# Altium schematic symbol library Standardbauteile.SchLib: 43 symbols
Pins are listed as number, name and electrical type; pins without a type are passive.

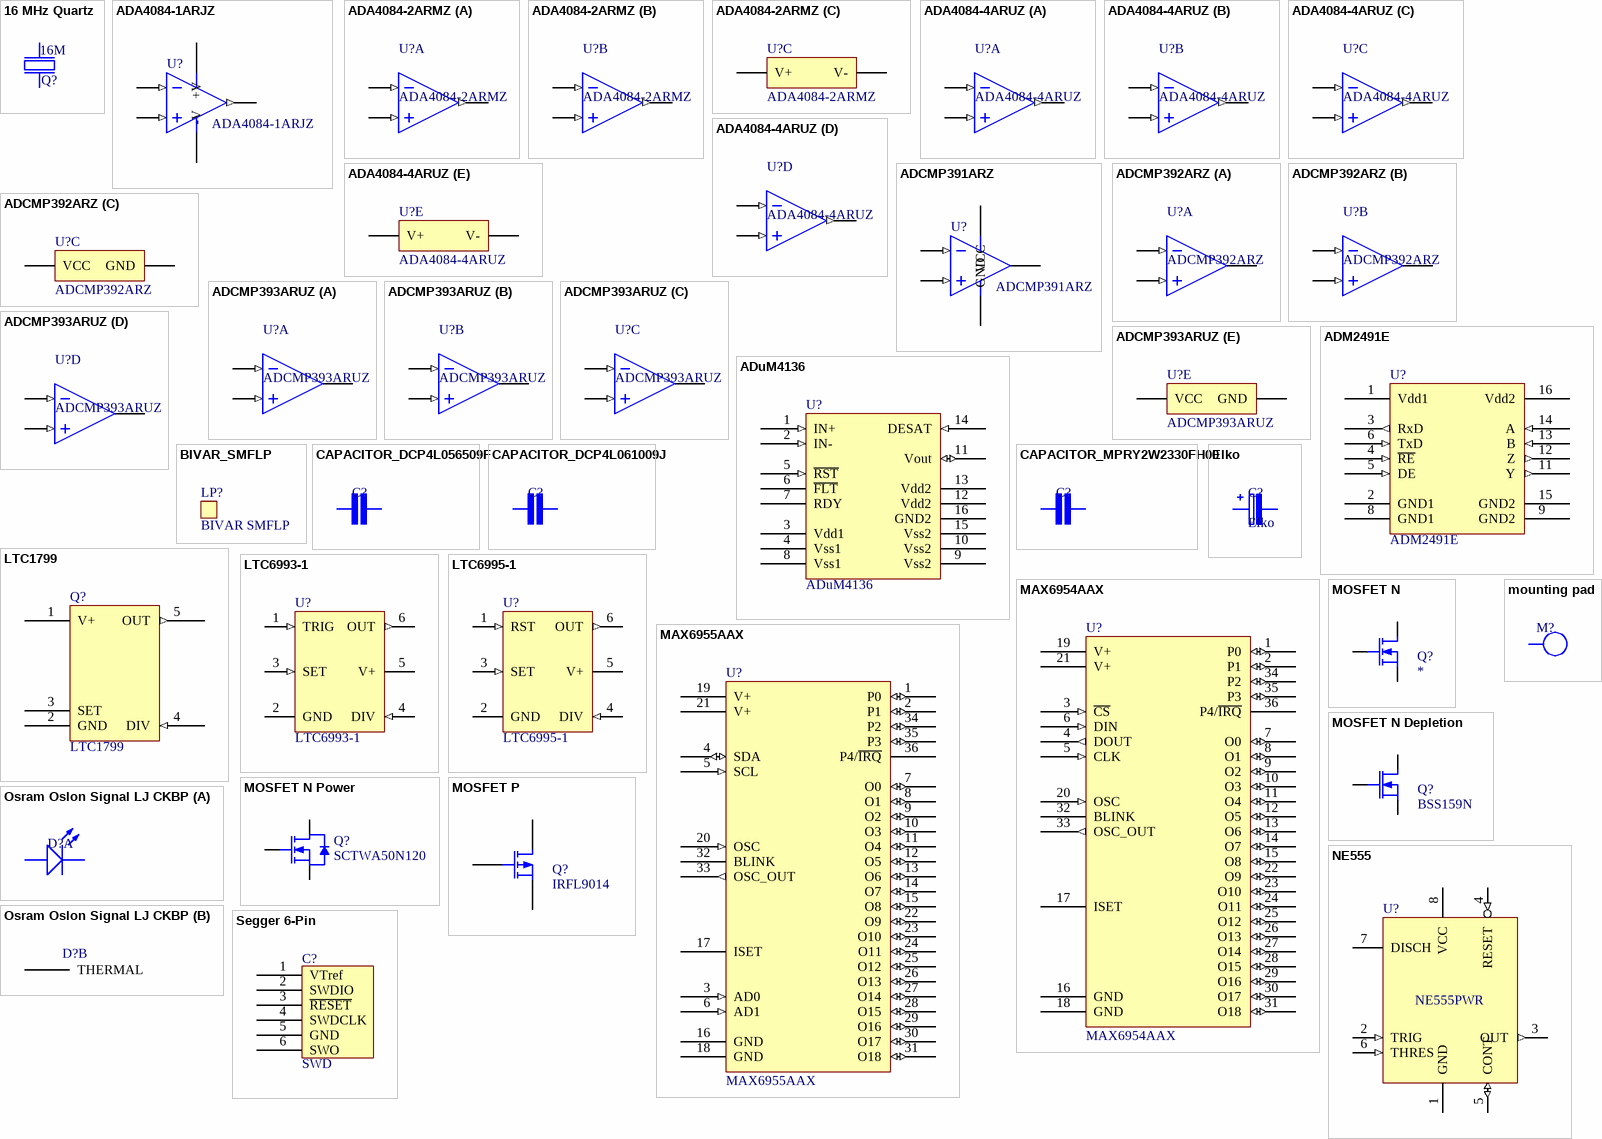
[diagram p0: symbols 16 MHz Quartz to Segger 6-Pin]

## 16 MHz Quartz
designator Q?, comment 16M
16 MHz Quartz
footprint NDK NX5032GA (Crystal, 2-Leads, Body 5.00x3.20mm, IPC Medium Density)
pins: 1, 2

## ADA4084-1ARJZ
designator U?
30 V, Low Noise, Rail-to-Rail Input/Output, Low Power Operational Amplifiers
footprint SOT-23-5-PIN
pins: 1 OUT (out), 2 -V (power), 3 +IN (in), 4 -IN (in), 5 +V (power)

## ADA4084-2ARMZ
designator U?
30 V, Low Noise, Rail-to-Rail Input/Output, Low Power Operational Amplifiers
footprint ANALOG_RM8 (Analog Devices 8-Lead Mini Small Outline Package)
part A pins: 1 OUT_A (out), 2 -IN_A (in), 3 +IN_A (in)
part B pins: 5 +IN_B (in), 6 -IN_B (in), 7 OUT_B (out)
part C pins: 4 V- (power), 8 V+ (power)

## ADA4084-4ARUZ
designator U?
30 V, Low Noise, Rail-to-Rail Input/Output, Low Power Operational Amplifiers
footprint ANALOG_RU14 (Analog Devices 14-Lead Thin Shrink Small Outline Package [TSSOP])
part A pins: 1 OUT_A (out), 2 -IN_A (in), 3 +IN_A (in)
part B pins: 5 +IN_B (in), 6 -IN_B (in), 7 OUT_B (out)
part C pins: 8 OUT_C (out), 9 -IN_C (in), 10 +IN_C (in)
part D pins: 12 +IN_D (in), 13 -IN_D (in), 14 OUT_D (out)
part E pins: 4 V+ (power), 11 V- (power)

## ADCMP391ARZ
designator U?
2.3V-5.5V Single Comparator With Known Power-Up State and Open-Drain output
footprint ANALOG_R8 (Analog Devices 8-Lead Standard Small Outline Package [SOIC_N])
pins: 2 -IN (in), 3 +IN (in), 4 GND (power), 6 OUT (oc), 7 VCC (power)

## ADCMP392ARZ
designator U?
2.3V-5.5V Dual Comparator With Known Power-Up State and Open-Drain outputs
footprint ANALOG_R8 (Analog Devices 8-Lead Standard Small Outline Package [SOIC_N])
part A pins: 1 OUT_A (oc), 2 -IN_A (in), 3 +IN_A (in)
part B pins: 5 +IN_B (in), 6 -IN_B (in), 7 OUT_B (oc)
part C pins: 4 GND (power), 8 VCC (power)

## ADCMP393ARUZ
designator U?
2.3V-5.5V Quad Comparator With Known Power-Up State and Open-Drain output
footprint ANALOG_RU14 (Analog Devices 14-Lead Thin Shrink Small Outline Package [TSSOP])
part A pins: 2 OUT_A (oc), 4 -IN_A (in), 5 +IN_A (in)
part B pins: 1 OUT_B (oc), 6 -IN_B (in), 7 +IN_B (in)
part C pins: 8 -IN_C (in), 9 +IN_C (in), 14 OUT_C (oc)
part D pins: 10 -IN_D (in), 11 +IN_D (in), 13 OUT_D (oc)
part E pins: 3 VCC (power), 12 GND (power)

## ADM2491E
designator U?
footprint SOIC16 (SOIC, 16-Leads, Body 10,30x7,50mm, Pitch 1,27mm, IPC Medium Density)
pins: 1 Vdd1 (power), 2 GND1 (power), 3 RxD (out), 4 ~{RE} (in), 5 DE (in), 6 TxD (in), 8 GND1 (power), 9 GND2 (power), 11 Y (out), 12 Z (out), 13 B (in), 14 A (in), 15 GND2 (power), 16 Vdd2 (power)

## ADuM4136
designator U?
footprint SOIC16 (SOIC, 16-Leads, Body 10,30x7,50mm, Pitch 1,27mm, IPC Medium Density)
pins: 1 IN+ (in), 2 IN- (in), 3 Vdd1 (power), 4 Vss1 (power), 5 ~{RST} (in), 6 ~{FLT} (oc), 7 RDY (oc), 8 Vss1 (power), 9 Vss2 (power), 10 Vss2 (power), 11 Vout (io), 12 Vdd2 (power), 13 Vdd2 (power), 14 DESAT (in), 15 Vss2 (power), 16 GND2 (power)

## BIVAR_SMFLP
designator LP?, comment BIVAR SMFLP  (mechanical)
footprint BIVAR_SMFLP (SMD flexible lightpipe)

## CAPACITOR_DCP4L056509F
designator C?, comment DCP4L056509F  (value not drawn)
WIMA MKP4 Capacitor 800V 65uF; Value: 65u; Datasheet: https://www.wima.de/wp-content/uploads/media/d_WIMA_DC_Link_MKP_4.pdf
footprint CAPACITOR_DCP4L056509F (WIMA MKP4 Capacitor)
pins: 1, 2

## CAPACITOR_DCP4L061009J
designator C?, comment DCP4L061009J  (value not drawn)
WIMA MKP4 Capacitor 800V 100uF; Value: 100u; Datasheet: https://www.wima.de/wp-content/uploads/media/d_WIMA_DC_Link_MKP_4.pdf
footprint CAPACITOR_DCP4L061009J (WIMA MKP4 Capacitor)
pins: 1, 2

## CAPACITOR_MPRY2W2330FH00
designator C?, comment MPRY2W2330FH00  (value not drawn)
WIMA MP 3-Y2 Capacitor 300V 22nF; Value: 22n; Datasheet: https://www.wima.de/wp-content/uploads/media/d_WIMA_MP_3-Y2_3R-Y2.pdf
footprint CAPACITOR_MPRY2W2330FH00 (WIMA MP3-Y2 Capacitor)
pins: 1, 2

## Elko
designator C?
footprint CAP ALUM 6.6MM (Aluminum Electrolytic Capacitor, Body 6.60x6.60x7.70mm, IPC Low Density)
footprint CAP ALUM 8.3MM (Aluminum Electrolytic Capacitor, Body 8.30x8.30x10.50mm, IPC Low Density)
footprint CAP ALUM 10.3MM (Aluminum Electrolytic Capacitor, Body 10.30x10.30x10.50mm, IPC Low Density)
pins: 1, 2

## LTC1799
designator Q?
1kHz to 3MHz Resistor Set Oscillator
footprint SOT-23-5-PIN
pins: 1 V+ (power), 2 GND (power), 3 SET (oc), 4 DIV (in), 5 OUT (out)

## LTC6993-1
designator U?
Monostable Pulse Generator (Rising Edge, No Retrigger)
footprint LT-S6-6-TSOT-23_L (SOT23, 6-Leads, Body 2.90x1.63mm, Pitch 0.95mm, IPC High Density)
pins: 1 TRIG (in) "Trigger Input. Depending on the version, a rising orfalling edge on TRIGwill initiate the output pulse.", 2 GND (power) "Ground. Tie to a lowinductance ground plane for best performance.", 3 SET (in) "Pulse Width Setting Input. The voltage on the SET pin (VSET) is regulated to 1V above GND. The amount of current sourced from the SET pin (ISET) programs the master oscillator frequency", 4 DIV (in) "Programmable Divider and Polarity Input. The DIV pin voltage (VDIV) is internally converted into a 4-bit result (DIVCODE). VDIV may be generated by a resistor divider between V+ and GND. Use 1% resistors to ensure an accurate result. The DIV pin and resistors should be shielded from the OUT pin or any other traces that have fast edges. Limit the capacitance on the DIV pin to less than 100pF so that VDIV settles quickly. The MSB of DIVCODE (POL) determines the polarity of the OUT pins. When POL = 0 the output produces a positive pulse. When POL = 1 the output produces a negative pulse.", 5 V+ (power) "SupplyVoltage (2.25Vto 5.5V). This supply should be kept free from noise and ripple. It should be bypassed directly to the GND pin with a 0.1uF capacitor.", 6 OUT (out) "Output. The OUT pin swings from GND to V+ with an output resistance of approximately 30Ohm. When driving an LED or other low impedance load a series output resistor should be used to limit source/sink current to 20mA."

## LTC6995-1
designator U?
Low Frequency Oscillator (active high RST)
footprint LT-S6-6-TSOT-23_L (SOT23, 6-Leads, Body 2.90x1.63mm, Pitch 0.95mm, IPC High Density)
pins: 1 RST (in) "Trigger Input. Depending on the version, a rising orfalling edge on TRIGwill initiate the output pulse.", 2 GND (power) "Ground. Tie to a lowinductance ground plane for best performance.", 3 SET (in) "Pulse Width Setting Input. The voltage on the SET pin (VSET) is regulated to 1V above GND. The amount of current sourced from the SET pin (ISET) programs the master oscillator frequency", 4 DIV (in) "Programmable Divider and Polarity Input. The DIV pin voltage (VDIV) is internally converted into a 4-bit result (DIVCODE). VDIV may be generated by a resistor divider between V+ and GND. Use 1% resistors to ensure an accurate result. The DIV pin and resistors should be shielded from the OUT pin or any other traces that have fast edges. Limit the capacitance on the DIV pin to less than 100pF so that VDIV settles quickly. The MSB of DIVCODE (POL) determines the polarity of the OUT pins. When POL = 0 the output produces a positive pulse. When POL = 1 the output produces a negative pulse.", 5 V+ (power) "SupplyVoltage (2.25Vto 5.5V). This supply should be kept free from noise and ripple. It should be bypassed directly to the GND pin with a 0.1uF capacitor.", 6 OUT (out) "Output. The OUT pin swings from GND to V+ with an output resistance of approximately 30Ohm. When driving an LED or other low impedance load a series output resistor should be used to limit source/sink current to 20mA."

## MAX6954AAX
designator U?
4-Wire Interfaced, 2.7V to 5.5V / LED Display Driver with I/O / Expander and Key Scan; ComponentLink1Description: Datasheet; ComponentLink1URL: https://datasheets.maximintegrated.com/en/ds/MAX6954.pdf; ComponentLink2Description: Website; ComponentLink2URL: https://www.maximintegrated.com/en/products/power/display-power-control/MAX6954.html
footprint MAXIM_36_SSOP (Maxim Integrated A36-2  36 SSOP)
pins: 1 P0 (io), 2 P1 (io), 3 ~{CS} (in), 4 DOUT (out), 5 CLK (in), 6 DIN (in), 7 O0 (io), 8 O1 (io), 9 O2 (io), 10 O3 (io), 11 O4 (io), 12 O5 (io), 13 O6 (io), 14 O7 (io), 15 O8 (io), 16 GND (power), 17 ISET (oe), 18 GND (power), 19 V+ (power), 20 OSC (in), 21 V+ (power), 22 O9 (io), 23 O10 (io), 24 O11 (io), 25 O12 (io), 26 O13 (io), 27 O14 (io), 28 O15 (io), 29 O16 (io), 30 O17 (io), 31 O18 (io), 32 BLINK (oc), 33 OSC_OUT (out), 34 P2 (io), 35 P3 (io), 36 P4/~{IRQ} (oc)

## MAX6955AAX
designator U?
2-Wire Interfaced, 2.7V to 5.5V / LED Display Driver with I/O / Expander and Key Scan; ComponentLink1Description: Datasheet; ComponentLink1URL: https://datasheets.maximintegrated.com/en/ds/MAX6955.pdf; ComponentLink2Description: Website; ComponentLink2URL: https://www.maximintegrated.com/en/products/power/display-power-control/MAX6955.html
footprint MAXIM_36_SSOP (Maxim Integrated A36-2  36 SSOP)
pins: 1 P0 (io), 2 P1 (io), 3 AD0 (in), 4 SDA (io), 5 SCL (in), 6 AD1 (in), 7 O0 (io), 8 O1 (io), 9 O2 (io), 10 O3 (io), 11 O4 (io), 12 O5 (io), 13 O6 (io), 14 O7 (io), 15 O8 (io), 16 GND (power), 17 ISET (oe), 18 GND (power), 19 V+ (power), 20 OSC (in), 21 V+ (power), 22 O9 (io), 23 O10 (io), 24 O11 (io), 25 O12 (io), 26 O13 (io), 27 O14 (io), 28 O15 (io), 29 O16 (io), 30 O17 (io), 31 O18 (io), 32 BLINK (oc), 33 OSC_OUT (out), 34 P2 (io), 35 P3 (io), 36 P4/~{IRQ} (oc)

## MOSFET N
designator Q?
N-Channel MOSFET / RK7002BMT116: / 250mA, 60Vds, 20Vgs / IRLML0100TR: / 1.6A, 100Vds, 16Vgs
footprint SOT23 (SOT23, 3-Leads, Body 2,90x2,45mm, Pitch 0,95mm, IPC Medium Density)
pins: 1 G, 2 S, 3 D

## MOSFET N Depletion
designator Q?, comment BSS159N
N-Channel MOSFET
footprint SOT23 (SOT23, 3-Leads, Body 2,90x2,45mm, Pitch 0,95mm, IPC Medium Density)
pins: 1 G, 2 S, 3 D

## MOSFET N Power
designator Q?, comment SCTWA50N120
SiC N-Channel MOSFET
footprint HiP247
footprint TO-247_flat_faceup
footprint TO-263 (D2-PAK, 4-Leads, Body 9.2x10.2mm, Pitch 2.54mm, Lead Span 15.4mm, IPC High Density); pin to pad 2>4
pins: 1 G, 2 D, 3 S

## MOSFET P
designator Q?, comment IRFL9014
P-Channel MOSFET
footprint SOT223-IRFL9014 (SOT223, 4-Leads, Body 6,50x7,00mm (avg), Pitch 2,30mm, IPC Medium Density); pin to pad 1>D 2>G 3>S
pins: 1 D, 2 G, 3 S

## mounting pad
designator M?  (no BOM)
mounting pad
footprint MOUNTING_PAD_M4 (M4 mounting pad)
footprint MOUNTING_PAD_M3 (M3 mounting pad)
pins: 1

## NE555
designator U?, comment NE555PWR
footprint 8-TSSOP (TSOP, 8-Leads, Body 3,00x4,40mm, Pitch 0,65mm, IPC Low Density)
pins: 1 GND (power), 2 TRIG (in), 3 OUT (out), 4 RESET (in), 5 CONT (io), 6 THRES (in), 7 DISCH (oc), 8 VCC (power)

## Osram Oslon Signal LJ CKBP
designator D?
footprint OSLON Signal LJ CKBP
part A pins: A Anode, C Cathode
part B pins: THERMAL

## Segger 6-Pin
designator C?, comment SWD  (no BOM)
footprint SEGGER_6_PIN
pins: 1 VTref, 2 SWDIO, 3 ~{RESET}, 4 SWDCLK, 5 GND, 6 SWO

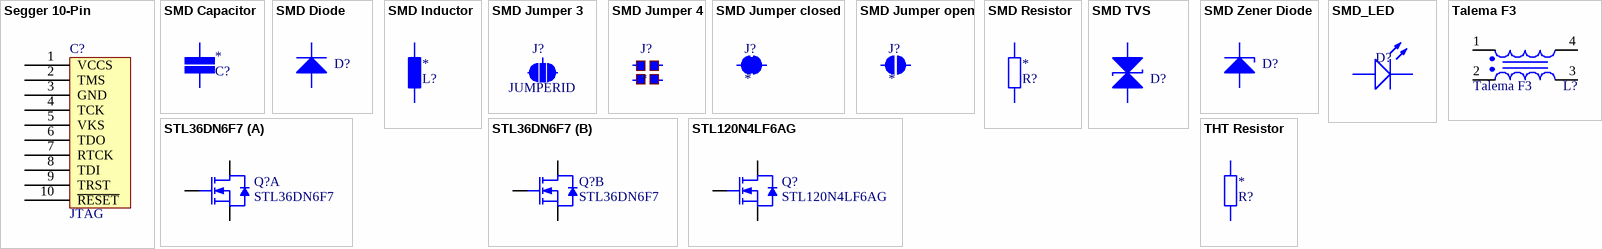
[diagram p1: symbols Segger 10-Pin to THT Resistor]

## Segger 10-Pin
designator C?, comment JTAG  (no BOM)
footprint SEGGER_10_PIN
pins: 1 VCCS, 2 TMS, 3 GND, 4 TCK, 5 VKS, 6 TDO, 7 RTCK, 8 TDI, 9 TRST, 10 ~{RESET}

## SMD Capacitor
designator C?
Capacitor with multiple Footprints; Value: *
footprint CAP 0603/1608 (Chip Capacitor, 2-Leads, Body 1.60x0.80mm, IPC Medium Density)
footprint CAP 0805/2012 (Chip Capacitor, 2-Leads, Body 2.00x1.20mm, IPC Medium Density)
footprint CAP 1206/3216 (Chip Capacitor, 2-Leads, Body 3.25x1.60mm, IPC Medium Density)
pins: 1, 2

## SMD Diode
designator D?  (value not drawn)
footprint DO214AA SMB (Molded Diode, 2-Leads, Body 4.31x3.62mm, IPC Medium Density); pin to pad A>1 C>2
footprint DO214AB SMC (Molded Diode, 2-Leads, Body 6.85x5.90mm, IPC Medium Density); pin to pad A>1 C>2
footprint DO214AC SMA (Molded Diode, 2-Leads, Body 4.30x2.60mm, IPC Medium Density); pin to pad A>1 C>2
footprint SMBFLAT (Molded Diode, 2-Leads, Body 5.1x3.3mm, IPC Medium Density)
footprint DO214BA GF1 (Molded, 2-Leads, Body 4.57x3.94mm, IPC High Density)
footprint SOT23 (SOT23, 3-Leads, Body 2,90x2,45mm, Pitch 0,95mm, IPC Medium Density); pin to pad A>1 C>3
footprint SOD123F (SODFL, 2-Leads, Body 1.60x3.50mm, IPC Medium Density); pin to pad A>1 C>2
footprint SOD323F (SODFL, 2-Leads, Body 1.25x2.50mm, IPC Medium Density); pin to pad A>1 C>2
pins: A, C

## SMD Inductor
designator L?
Value: *
footprint SMD-Inductor 1206 (Chip Inductor, 1206)
footprint STACKPOLE CSR0402 (Chip Resistor, 2-Leads, Body 1.0x0.5mm, IPC Medium Density)
footprint STACKPOLE CSR0603 (Chip Resistor, 2-Leads, Body 1.60x0.80mm, IPC Medium Density)
footprint STACKPOLE CSR0805 (Chip Resistor, 2-Leads, Body 2.00x1.25mm, IPC Medium Density)
pins: 1, 2

## SMD Jumper 3
designator J?, comment JUMPERID  (net tie, no BOM)
footprint SMD-JUMPER-3 (Jumper, SMD)
pins: 1, 2, 3

## SMD Jumper 4
designator J?  (no BOM)
footprint SMD-JUMPER-QUAD (Jumper, SMD)
pins: 1, 2, 3, 4

## SMD Jumper closed
designator J?  (net tie, no BOM)
footprint SMD-JUMPER-CLOSED (Jumper, SMD)
pins: 1, 2

## SMD Jumper open
designator J?  (no BOM)
footprint SMD-JUMPER-OPEN (Jumper, SMD)
pins: 1, 2

## SMD Resistor
designator R?
Resistor with multiple footprints; Value: *
footprint STACKPOLE CSR0603 (Chip Resistor, 2-Leads, Body 1.60x0.80mm, IPC Medium Density)
footprint STACKPOLE CSR0805 (Chip Resistor, 2-Leads, Body 2.00x1.25mm, IPC Medium Density)
footprint STACKPOLE CSR1206 (Chip Resistor, 2-Leads, Body 3.13x1.55mm, IPC Medium Density)
footprint STACKPOLE CSRN2512 (Chip Resistor, 2-Leads, Body 6.40x3.20mm, IPC Medium Density)
pins: 1, 2

## SMD TVS
designator D?, comment SMBJ33CA  (value not drawn)
Transient Voltage Suppression Diodes
footprint DO214AA SMB (Molded Diode, 2-Leads, Body 4.31x3.62mm, IPC Medium Density); pin to pad A>1 C>2
footprint DO214AB SMC (Molded Diode, 2-Leads, Body 6.85x5.90mm, IPC Medium Density); pin to pad A>1 C>2
footprint DO214AC SMA (Molded Diode, 2-Leads, Body 4.30x2.60mm, IPC Medium Density); pin to pad A>1 C>2
footprint SMBFLAT (Molded Diode, 2-Leads, Body 5.1x3.3mm, IPC Medium Density)
footprint DO214BA GF1 (Molded, 2-Leads, Body 4.57x3.94mm, IPC High Density)
footprint SOT23 (SOT23, 3-Leads, Body 2,90x2,45mm, Pitch 0,95mm, IPC Medium Density); pin to pad A>1 C>3
pins: A, C

## SMD Zener Diode
designator D?  (value not drawn)
footprint SOT23 (SOT23, 3-Leads, Body 2,90x2,45mm, Pitch 0,95mm, IPC Medium Density); pin to pad A>1 C>3
pins: A, C

## SMD_LED
designator D?
footprint SOT-23 - LED
pins: A Anode, C Cathode

## STL36DN6F7
designator Q?
Dual N-channel 60 V, 23 mΩ typ., 33 A
footprint STM_PowerFLAT_5x6_NFET_double_island
part A pins: D1, G1, S1
part B pins: D2, G2, S2

## STL120N4LF6AG
designator Q?
Automotive-grade N-channel 40 V, 3.0 mΩ typ., 55 A
footprint STM_PowerFLAT_5x6_NFET
pins: D, G, S

## Talema F3
designator L?
footprint TALEMA_F3 (Talema/Nuvotem common mode choke)
pins: 1, 2, 3, 4

## THT Resistor
designator R?
Value: *
footprint HV_THT_RESISTOR
footprint RESISTOR_HS25 (Power resistor by arcol)
footprint OHMITE_TUM15 (Ceramic Housed Axial Terminal Power Resistor)
footprint YAGEO_HHV_25
pins: 1, 2